# Altium footprint library DPAK228P991X238-3N_AOD413A.PcbLib: 1 footprints
Each footprint in its own frame and in the unit in brackets; x right, y up, seen from the top. Pads: shape width x height; smd on the part's side, far side on the other; paste and mask are expansions set on the pad; w line width, h text height; cw(c..) or ccw(c..) is an arc to the next point about the centre after c.
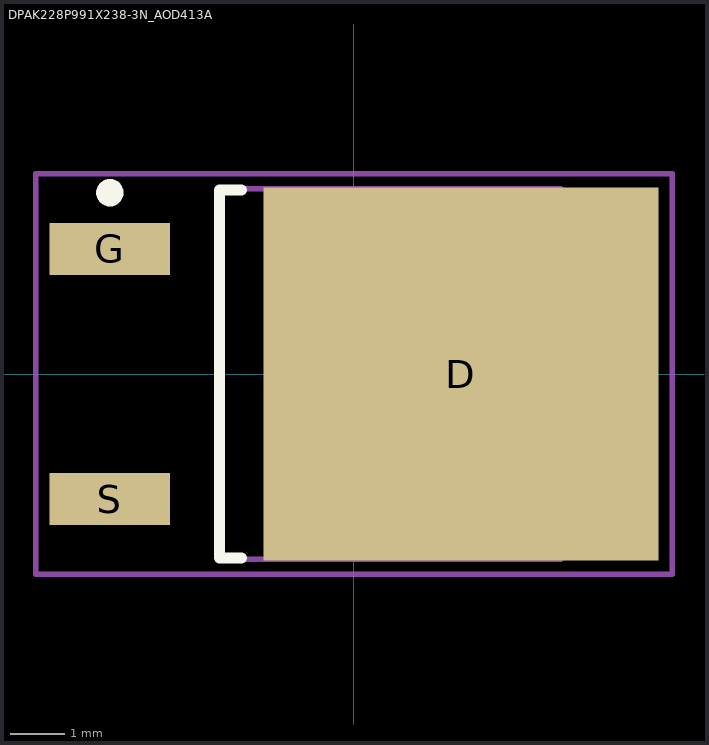
[diagram p0: the footprint, top view; thin cyan lines are the x and y axes]

## DPAK228P991X238-3N_AOD413A [mm] "D-PAK, 3-Pads, Body 6.21x6.73mm (max), IPC Medium Density"
height 2.38
pads (3):
  rect 7.2x6.8 smd: D(1.95,0)
  rect 2.2x0.95 smd: G(-4.45,2.28) S(-4.45,-2.28)
Top Overlay:
  circle w0.25: c-4.45,3.305 r0.125
  lines w0.2: -2.05,-3.35 -2.45,-3.35 -2.45,3.35 -2.05,3.35
Top Comp Asy Info:
  lines w0.1: -2.45,-3.375 -2.45,3.375 3.77,3.375 3.77,-3.375 -2.45,-3.375
Top Courtyards/Models:
  lines w0.1: -0.5,0 0.5,0 ; 0,-0.5 0,0.5 ; -5.8,-3.65 -5.8,3.65 5.8,3.65 5.8,-3.65 -5.8,-3.65
3D body "DPAK228P991X238-3N.step": height 2.38, standoff 0, extent -4.6,-3.375 5.305,3.375